# Altium footprint library CN_TP_TH_0.8mm.PcbLib: 1 footprints
Each footprint in its own frame and in the unit in brackets; x right, y up, seen from the top. Pads: shape width x height; smd on the part's side, far side on the other; paste and mask are expansions set on the pad; w line width, h text height; cw(c..) or ccw(c..) is an arc to the next point about the centre after c.
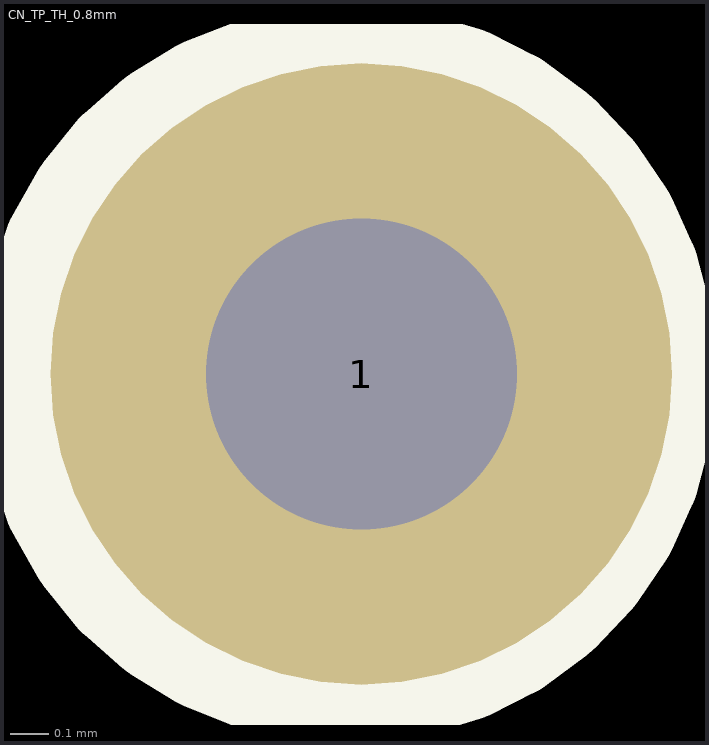
[diagram p0: the footprint, top view; thin cyan lines are the x and y axes]

## CN_TP_TH_0.8mm [mm]
pads (1):
  round 1.6 hole 0.8: 1(0,0)
Top Overlay:
  circle w0.305: c-0.038,0 r0.8